# EAGLE library part CON-IDC-2X20-RA-REV (library steves)
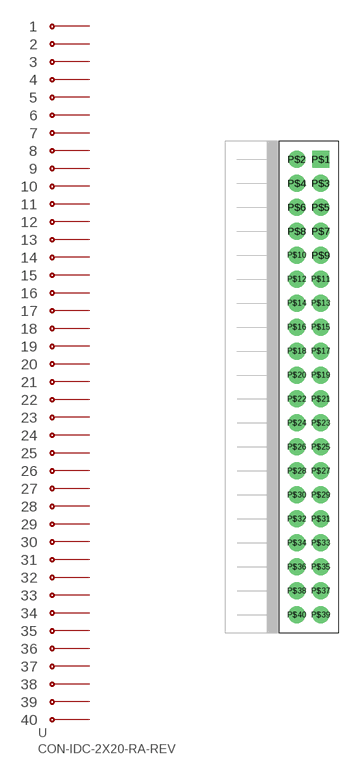
[diagram p20: symbol with the pads of CON-IDC-2X20-RA; footprint CON-IDC-2X20-RA]

Designator prefix -

## CON-IDC-2X20-RA-REV  [CON-IDC-2X20-RA]
P$1  1  pas
P$2  2  pas
P$3  3  pas
P$4  4  pas
P$5  5  pas
P$6  6  pas
P$7  7  pas
P$8  8  pas
P$9  9  pas
P$10  10  pas
P$11  11  pas
P$12  12  pas
P$13  13  pas
P$14  14  pas
P$15  15  pas
P$16  16  pas
P$17  17  pas
P$18  18  pas
P$19  19  pas
P$20  20  pas
P$21  21  pas
P$22  22  pas
P$23  23  pas
P$24  24  pas
P$25  25  pas
P$26  26  pas
P$27  27  pas
P$28  28  pas
P$29  29  pas
P$30  30  pas
P$31  31  pas
P$32  32  pas
P$33  33  pas
P$34  34  pas
P$35  35  pas
P$36  36  pas
P$37  37  pas
P$38  38  pas
P$39  39  pas
P$40  40  pas

## Footprint CON-IDC-2X20-RA (pad centres in mm)
drill 1.2 square: P$1 1.27,25.4
drill 1.2: P$2 -1.27,25.4; P$3 1.27,22.86; P$4 -1.27,22.86; P$5 1.27,20.32; P$6 -1.27,20.32; P$7 1.27,17.78; P$8 -1.27,17.78; P$9 1.27,15.24; P$10 -1.27,15.24; P$11 1.27,12.7; P$12 -1.27,12.7; P$13 1.27,10.16; P$14 -1.27,10.16; P$15 1.27,7.62; P$16 -1.27,7.62; P$17 1.27,5.08; P$18 -1.27,5.08; P$19 1.27,2.54; P$20 -1.27,2.54; P$21 1.27,0; P$22 -1.27,0; P$23 1.27,-2.54; P$24 -1.27,-2.54; P$25 1.27,-5.08; P$26 -1.27,-5.08; P$27 1.27,-7.62; P$28 -1.27,-7.62; P$29 1.27,-10.16; P$30 -1.27,-10.16; P$31 1.27,-12.7; P$32 -1.27,-12.7; P$33 1.27,-15.24; P$34 -1.27,-15.24; P$35 1.27,-17.78; P$36 -1.27,-17.78; P$37 1.27,-20.32; P$38 -1.27,-20.32; P$39 1.27,-22.86; P$40 -1.27,-22.86